# EAGLE library part A6RS-162RS-P (library SamacSys_Parts)
DIP Switches / SIP Switches Rotary 16 pos top-act. ext shaft Source: Datasheet <https://componentsearchengine.com/Datasheets/1/A6RS-162RS-P.pdf>
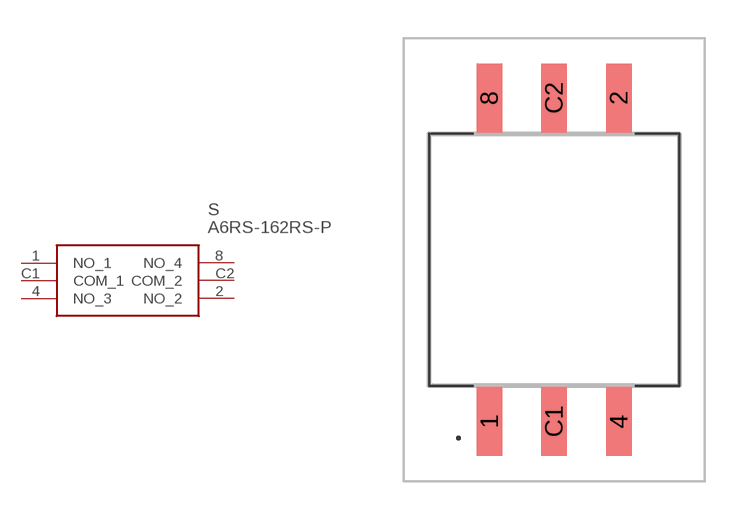
[diagram p6: symbol with the pads of A6RS162RSP; footprint A6RS162RSP]

Designator prefix S

## A6RS-162RS-P (Description: DIP Switches / SIP Switches Rotary 16 pos top-act. ext shaft; Height: 12.2mm; Manufacturer_Name: Omron Electronics; Manufacturer_Part_Number: A6RS-162RS-P; Mouser_Part_Number: 653-A6RS-162RS-P; Mouser_Price-Stock: https://www.mouser.co.uk/ProductDetail/Omron-Electronics/A6RS-162RS-P?qs=jCymNF74TgXSrNcgEnA%2FJA%3D%3D)  [A6RS162RSP]
1  NO_1
2  NO_2
4  NO_3
8  NO_4
C1  COM_1
C2  COM_2

## Footprint A6RS162RSP (pad centres in mm)
A6RS-162RS-P-1
smd 1 x 2.7: 1 -2.54,-6.35; 2 2.54,6.35; 4 2.54,-6.35; 8 -2.54,6.35; C1 0,-6.35; C2 0,6.35